# Altium footprint library PcbLib1.PcbLib: 12 footprints
Each footprint in its own frame and in the unit in brackets; x right, y up, seen from the top. Pads: shape width x height; smd on the part's side, far side on the other; paste and mask are expansions set on the pad; w line width, h text height; cw(c..) or ccw(c..) is an arc to the next point about the centre after c.
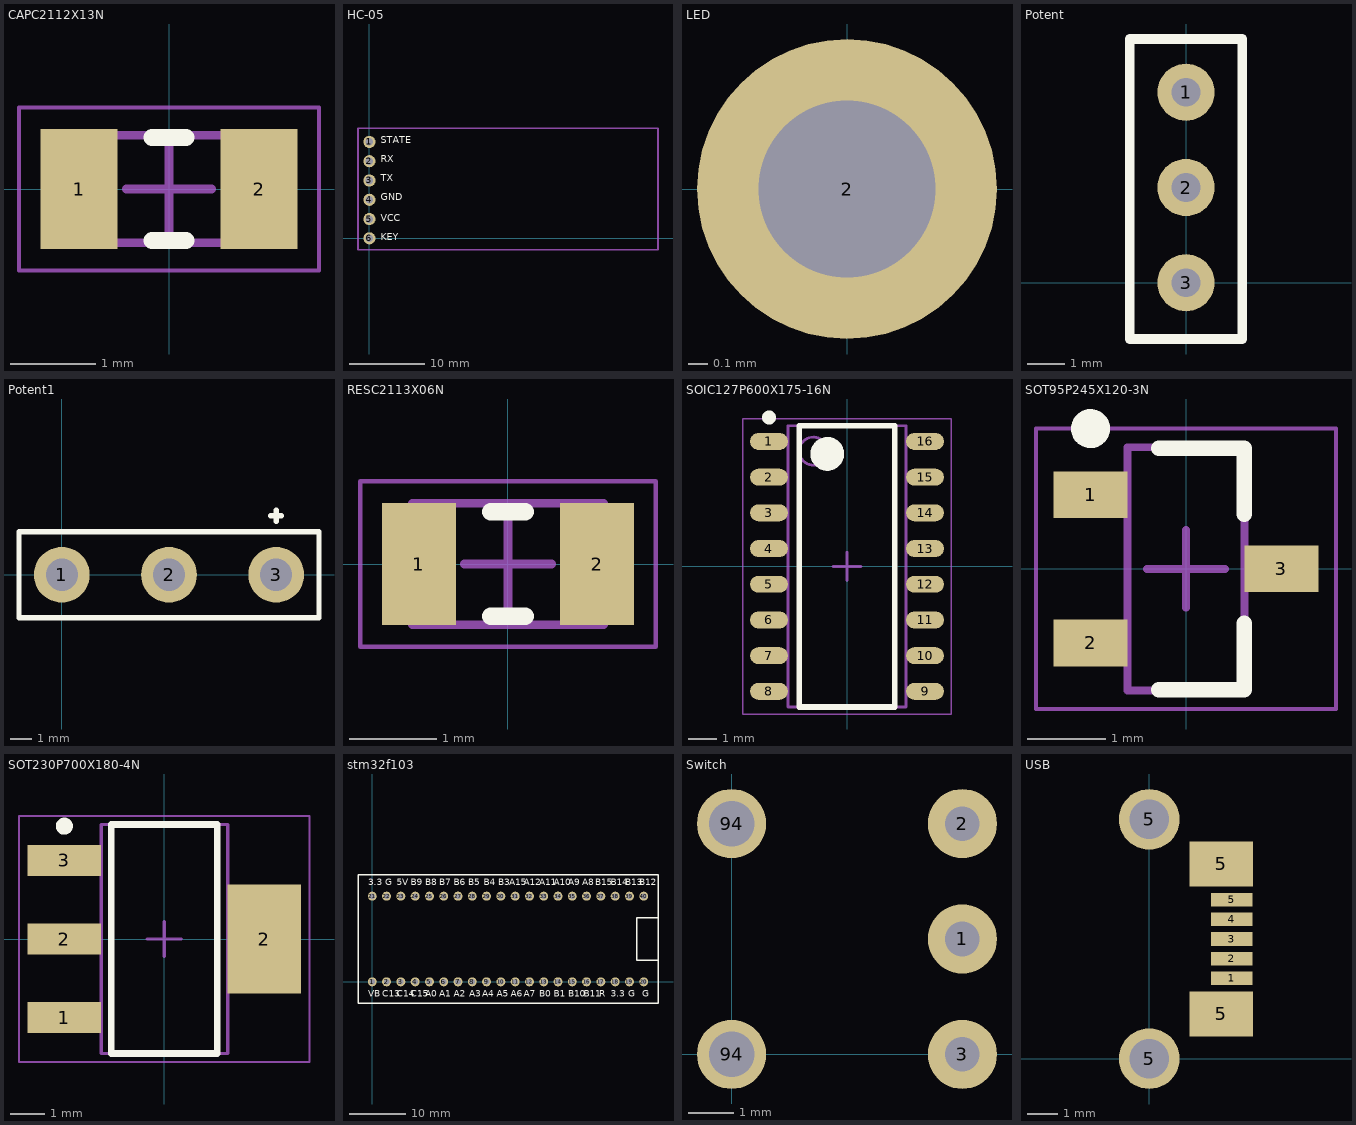
[diagram p0: the footprints below, top view; thin cyan lines are the x and y axes]

## CAPC2112X13N [mm] "Chip Capacitor, 2-Leads, Body 2,10x1,25mm, IPC Medium Density"
height 1.3
pads (2):
  rect 0.9x1.4 smd: 1(-1.05,0) 2(1.05,0)
Top Overlay:
  lines w0.2: -0.2,-0.6 0.2,-0.6 ; -0.2,0.6 0.2,0.6
Mechanical 13:
  lines w0.1: -1.1,-0.625 1.1,-0.625 1.1,0.625 -1.1,0.625 -1.1,-0.625
Mechanical 15:
  lines w0.05: -1.75,-0.95 1.75,-0.95 1.75,0.95 -1.75,0.95 -1.75,-0.95
  lines w0.1: -0.5,0 0.5,0 ; 0,-0.5 0,0.5
3D body: height 1.3, standoff 0, extent 0.8,-0.625 1.1,0.625
3D body: height 1.3, standoff 0, extent -1.1,-0.625 -0.8,0.625
3D body: height 1.3, standoff 0, extent -0.8,-0.625 0.8,0.625

## HC-05 [mm]
pads (6):
  round 1.6 hole 1: 1(0,12.7) 2(0,10.16) 3(0,7.62) 4(0,5.08) 5(0,2.54) 6(0,0)
Top Overlay:
  text "STATE" at 1.5,12.2 h1.52
  text "RX" at 1.5,9.7 h1.52
  text "TX" at 1.5,7.2 h1.52
  text "GND" at 1.5,4.7 h1.52
  text "VCC" at 1.5,1.9 h1.52
  text "KEY" at 1.5,-0.6 h1.52
Mechanical 1:
  lines w0.254: -1.5,-1.5 0,-1.5 38,-1.5 38,14.5 0,14.5 -1.5,14.5 -1.5,-1.5

## LED [mil]
pads (1):
  round 60 hole 35.43: 2(0,0)

## Potent [mil]
pads (3):
  round 60 hole 30: 1(0,200) 2(0,100) 3(0,0)
Top Overlay:
  lines w10: -59.06,-59.06 -59.06,255.91 59.06,255.91 59.06,-59.06 -59.06,-59.06

## Potent1 [mm]
pads (3):
  round 2.6 hole 1.5: 1(0,0) 2(5,0) 3(10,0)
Top Overlay:
  lines w0.254: 9.75,2.75 10.25,2.75 ; 10,2.5 10,3 ; -2,-2 -2,0.5 -2,2 12,2 12,-2 -2,-2

## RESC2113X06N [mm] "Chip Resistor, 2-Leads, Body 2,10x1,30mm, IPC Medium Density"
height 0.55
pads (2):
  rect 0.85x1.4 smd: 1(-1.025,0) 2(1.025,0)
Top Overlay:
  lines w0.2: -0.2,-0.6 0.2,-0.6 ; -0.2,0.6 0.2,0.6
Mechanical 13:
  lines w0.1: -1.1,-0.7 1.1,-0.7 1.1,0.7 -1.1,0.7 -1.1,-0.7
Mechanical 15:
  lines w0.05: -1.7,-0.95 1.7,-0.95 1.7,0.95 -1.7,0.95 -1.7,-0.95
  lines w0.1: -0.5,0 0.5,0 ; 0,-0.5 0,0.5
3D body: height 0.55, standoff 0, extent 0.8,-0.7 1.1,0.7
3D body: height 0.55, standoff 0, extent -1.1,-0.7 -0.8,0.7
3D body: height 0.55, standoff 0, extent -0.8,-0.7 0.8,0.7

## SOIC127P600X175-16N [mm] "SOIC, 16-Leads, Body 9,90x4,00mm, Pitch 1,27mm, IPC Medium Density"
height 1.75
pads (16):
  oval 1.35x0.6 smd: 1(-2.775,4.445) 2(-2.775,3.175) 3(-2.775,1.905) 4(-2.775,0.635) 5(-2.775,-0.635) 6(-2.775,-1.905) 7(-2.775,-3.175) 8(-2.775,-4.445) 9(2.775,-4.445) 10(2.775,-3.175) 11(2.775,-1.905) 12(2.775,-0.635) 13(2.775,0.635) 14(2.775,1.905) 15(2.775,3.175) 16(2.775,4.445)
Top Overlay:
  circle w0.25: c-2.775,5.295 r0.125
  circle w0.6: c-0.7,4 r0.3
  lines w0.2: -1.7,-5 -1.7,5 1.7,5 1.7,-5 -1.7,-5
Mechanical 13:
  circle w0.1: c-1.2,4.1 r0.5
  lines w0.1: -2.1,-5 -2.1,5 2.1,5 2.1,-5 -2.1,-5
Mechanical 15:
  lines w0.05: -3.7,-5.25 -3.7,5.25 3.7,5.25 3.7,-5.25 -3.7,-5.25
  lines w0.1: -0.5,0 0.5,0 ; 0,-0.5 0,0.5
3D body "SOIC127P600X175-16N.step": height 1.75, standoff 0.02, extent -2.96,-5 2.96,5

## SOT95P245X120-3N [mm] "SOT23, 3-Leads, Body 2,92x2,45mm, Pitch 0,95mm, IPC Medium Density"
height 1.2
pads (3):
  rect 0.95x0.6 smd: 1(-1.225,0.95) 2(-1.225,-0.95) 3(1.225,0)
Top Overlay:
  circle w0.25: c-1.225,1.8 r0.125
  lines w0.2: -0.35,-1.55 0.75,-1.55 0.75,-0.7 ; -0.35,1.55 0.75,1.55 0.75,0.7
Mechanical 13:
  lines w0.1: -0.75,-1.56 0.75,-1.56 0.75,1.56 -0.75,1.56 -0.75,-1.56
Mechanical 15:
  lines w0.05: -1.925,-1.8 1.925,-1.8 1.925,1.8 -1.925,1.8 -1.925,-1.8
  lines w0.1: -0.5,0 0.5,0 ; 0,-0.5 0,0.5
3D body: height 1.2, standoff 0.05, extent -0.75,-1.56 0.75,1.56

## SOT230P700X180-4N [mm] "SOT223, 4-Leads, Body 6,50x7,00mm (avg), Pitch 2,30mm, IPC Medium Density"
height 1.8
pads (4):
  rect 2.15x0.9 smd: 1(-2.925,-2.3) 2(-2.925,0) 3(-2.925,2.3)
  rect 2.15x3.2 smd: 2(2.925,0)
Top Overlay:
  circle w0.25: c-2.925,3.3 r0.125
  lines w0.2: -1.55,-3.35 1.55,-3.35 1.55,3.35 -1.55,3.35 -1.55,-3.35
Mechanical 13:
  lines w0.1: -1.85,-3.35 1.85,-3.35 1.85,3.35 -1.85,3.35 -1.85,-3.35
Mechanical 15:
  lines w0.05: -4.25,-3.6 4.25,-3.6 4.25,3.6 -4.25,3.6 -4.25,-3.6
  lines w0.1: -0.5,0 0.5,0 ; 0,-0.5 0,0.5
3D body "SOT230P700X180-4N.step": height 1.8, standoff 0, extent -3.5,-3.35 3.5,3.35

## stm32f103 [mm]
pads (40):
  round 1.6 hole 1: 1(0,0) 2(2.54,0) 3(5.08,0) 4(7.62,0) 5(10.16,0) 6(12.7,0) 7(15.24,0) 8(17.78,0) 9(20.32,0) 10(22.86,0) 11(25.4,0) 12(27.94,0) 13(30.48,0) 14(33.02,0) 15(35.56,0) 16(38.1,0) 17(40.64,0) 18(43.18,0) 19(45.72,0) 20(48.26,0) 21(0,15.24) 22(2.54,15.24) 23(5.08,15.24) 24(7.62,15.24) 25(10.16,15.24) 26(12.7,15.24) 27(15.24,15.24) 28(17.78,15.24) 29(20.32,15.24) 30(22.86,15.24) 31(25.4,15.24) 32(27.94,15.24) 33(30.48,15.24) 34(33.02,15.24) 35(35.56,15.24) 36(38.1,15.24) 37(40.64,15.24) 38(43.18,15.24) 39(45.72,15.24) 40(48.26,15.24)
Top Overlay:
  lines w0.254: 50.8,3.81 46.99,3.81 46.99,11.43 50.8,11.43 ; 50.8,7.62 50.8,-3.81 ; 50.8,-3.81 -2.54,-3.81 -2.54,19.05 50.8,19.05 50.8,-3.81
  text "B13" at 44.958,16.764 h2.03
  text "B12" at 47.498,16.764 h2.03
  text "3.3" at -0.762,16.764 h2.03
  text "G" at 2.286,16.764 h2.03
  text "5V" at 4.318,16.764 h2.03
  text "B9" at 6.858,16.764 h2.03
  text "B8" at 9.398,16.764 h2.03
  text "B7" at 11.938,16.764 h2.03
  text "B6" at 14.478,16.764 h2.03
  text "B5" at 17.018,16.764 h2.03
  text "B4" at 19.812,16.764 h2.03
  text "B3" at 22.352,16.764 h2.03
  text "A15" at 24.384,16.764 h2.03
  text "A12" at 26.924,16.764 h2.03
  text "A11" at 29.718,16.764 h2.03
  text "A10" at 32.258,16.764 h2.03
  text "A9" at 34.798,16.764 h2.03
  text "A8" at 37.338,16.764 h2.03
  text "B15" at 39.624,16.764 h2.03
  text "B14" at 42.418,16.764 h2.03
  text "3.3" at 42.418,-3.048 h2.03
  text "R" at 40.386,-3.048 h2.03
  text "B11" at 37.592,-3.048 h2.03
  text "B10" at 34.798,-3.048 h2.03
  text "B1" at 32.258,-3.048 h2.03
  text "B0" at 29.718,-3.048 h2.03
  text "A7" at 26.924,-3.048 h2.03
  text "A6" at 24.638,-3.048 h2.03
  text "A5" at 22.098,-3.048 h2.03
  text "A4" at 19.558,-3.048 h2.03
  text "A3" at 17.272,-3.048 h2.03
  text "A2" at 14.478,-3.048 h2.03
  text "A1" at 11.938,-3.048 h2.03
  text "A0" at 9.398,-3.048 h2.03
  text "C15" at 6.858,-3.048 h2.03
  text "C14" at 4.318,-3.048 h2.03
  text "C13" at 1.778,-3.048 h2.03
  text "VB" at -0.762,-3.048 h2.03
  text "G" at 48.006,-3.048 h2.03
  text "G" at 45.466,-3.048 h2.03

## Switch [mil]
pads (5):
  round 60 hole 30: 1(200,100) 2(200,200) 3(200,0)
  round 60 hole 39.37: 94(0,0) 94(0,200)

## USB [mm]
pads (9):
  rect 1.38x0.45 smd: 1(2.725,2.65) 2(2.725,3.3) 3(2.725,3.95) 4(2.725,4.6) 5(2.725,5.25)
  round 2 hole 1.3 unplated: 5(0,0) 5(0,7.9)
  rect 2.1x1.475 smd: 5(2.375,1.475) 5(2.375,6.425)